# Altium footprint library MBR2045.PcbLib: 1 footprints
Each footprint in its own frame and in the unit in brackets; x right, y up, seen from the top. Pads: shape width x height; smd on the part's side, far side on the other; paste and mask are expansions set on the pad; w line width, h text height; cw(c..) or ccw(c..) is an arc to the next point about the centre after c.
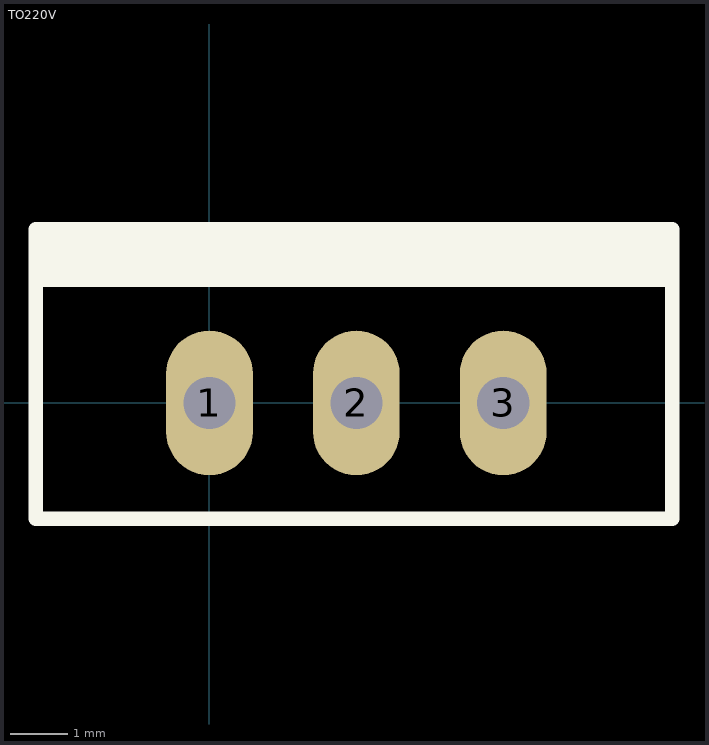
[diagram p0: the footprint, top view; thin cyan lines are the x and y axes]

## TO220V [mm]
pads (3):
  oval 1.5x2.5 hole 0.9: 1(0,0) 2(2.54,0) 3(5.08,0)
Top Overlay:
  rectangle: -3,2 8,3
  lines w0.254: -3,-2 8,-2 8,3 -3,3 -3,-2
3D body "TO-220AB.STEP": height 21.86, standoff -2, extent -2.76,-2.225 7.91,2.605